# Altium footprint library LMR62421 DOG_Bone.PcbLib: 1 footprints
Each footprint in its own frame and in the unit in brackets; x right, y up, seen from the top. Pads: shape width x height; smd on the part's side, far side on the other; paste and mask are expansions set on the pad; w line width, h text height; cw(c..) or ccw(c..) is an arc to the next point about the centre after c.
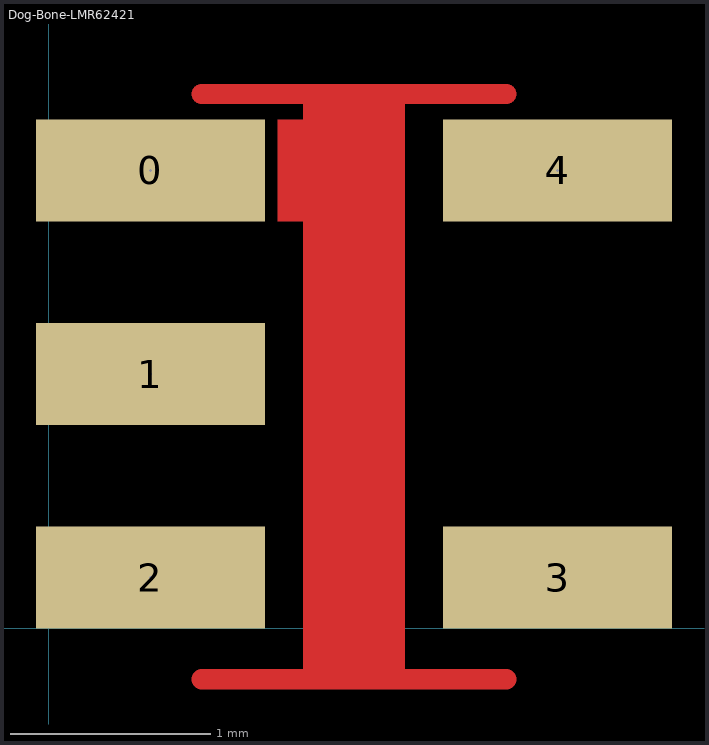
[diagram p0: the footprint, top view; thin cyan lines are the x and y axes]

## Dog-Bone-LMR62421 [mil]
pads (5):
  rect 45.08x20 hole 0.5: 0(20,90) 1(20,50) 2(20,10) 3(100,10) 4(100,90)
Top Layer:
  rectangle: 45,80 50,100
  rectangle: 50,-10 70,105
  lines w3.94: 30,-10 90,-10 ; 30,105 90,105